# Altium footprint library HDR_1X2_1.25.PcbLib: 1 footprints
Each footprint in its own frame and in the unit in brackets; x right, y up, seen from the top. Pads: shape width x height; smd on the part's side, far side on the other; paste and mask are expansions set on the pad; w line width, h text height; cw(c..) or ccw(c..) is an arc to the next point about the centre after c.
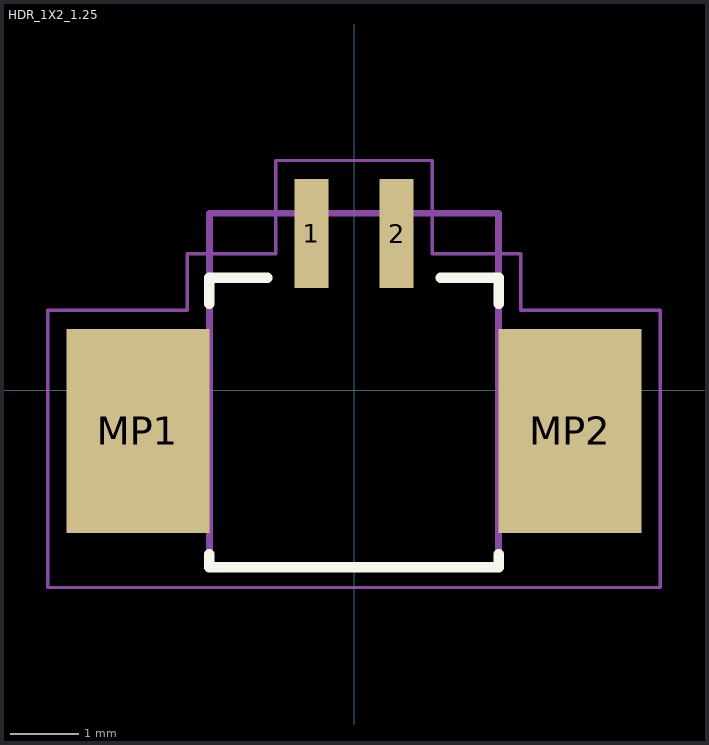
[diagram p0: the footprint, top view; thin cyan lines are the x and y axes]

## HDR_1X2_1.25 [mm]
height 3.55
pads (4):
  rect 0.5x1.6 smd: 1(-0.625,2.3) 2(0.625,2.3)
  rect 2.1x3 smd: MP1(-3.175,-0.6) MP2(3.175,-0.6)
Top Overlay:
  lines w0.152: -2.125,-2.413 -2.125,-2.6 2.125,-2.6 2.125,-2.413 ; -2.125,1.27 -2.125,1.651 -1.27,1.651 ; 1.27,1.651 2.125,1.651 2.125,1.27
Mechanical 13:
  lines w0.1: -2.125,-2.6 2.125,-2.6 2.125,2.6 -2.125,2.6 -2.125,-2.6
Mechanical 15:
  lines w0.05: -4.5,-2.9 4.5,-2.9 4.5,1.175 2.45,1.175 2.45,2.002 1.15,2.002 1.15,3.375 -1.15,3.375 -1.15,2.002 -2.45,2.002 -2.45,1.175 -4.5,1.175 -4.5,-2.9
3D body: height 3.75, standoff 0, extent -3.65,-2.6 3.65,2.6